# EAGLE library part NRF24L01 (library nRF24L01)
nRF24L01 Single chip 2.4GHz transceiver from Nordic Semiconductors.
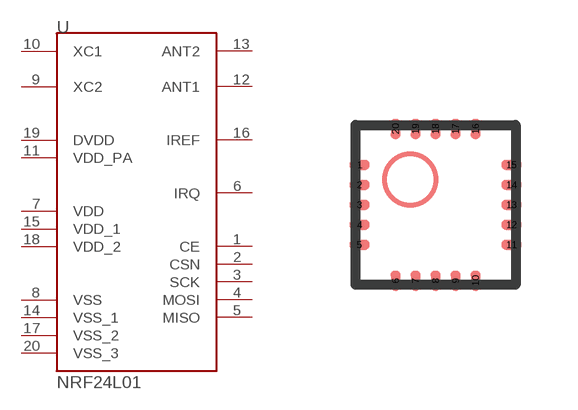
[diagram p0: symbol with the pads of QFN20; footprint QFN20]

Designator prefix -

## NRF24L01  [QFN20]
1  CE
2  CSN
3  SCK
4  MOSI
5  MISO
6  IRQ
7  VDD
8  VSS
9  XC2
10  XC1
11  VDD_PA
12  ANT1
13  ANT2
14  VSS_1
15  VDD_1
16  IREF
17  VSS_2
18  VDD_2
19  DVDD
20  VSS_3

## Footprint QFN20 (pad centres in mm)
QFN20 4mm x 4mm package, with matt tin plating from Nordic Semiconductor.
smd 0.5 x 0.25: 1 -1.9,1; 2 -1.9,0.5; 3 -1.9,0; 4 -1.9,-0.5; 5 -1.9,-1; 11 1.9,-1; 12 1.9,-0.5; 13 1.9,0; 14 1.9,0.5; 15 1.9,1
smd 0.25 x 0.5: 6 -1,-1.9; 7 -0.5,-1.9; 8 0,-1.9; 9 0.5,-1.9; 10 1,-1.9; 16 1,1.9; 17 0.5,1.9; 18 0,1.9; 19 -0.5,1.9; 20 -1,1.9